# Altium schematic symbol library CODEC_SHIELD.SchLib: 6 symbols
Pins are listed as number, name and electrical type; pins without a type are passive.

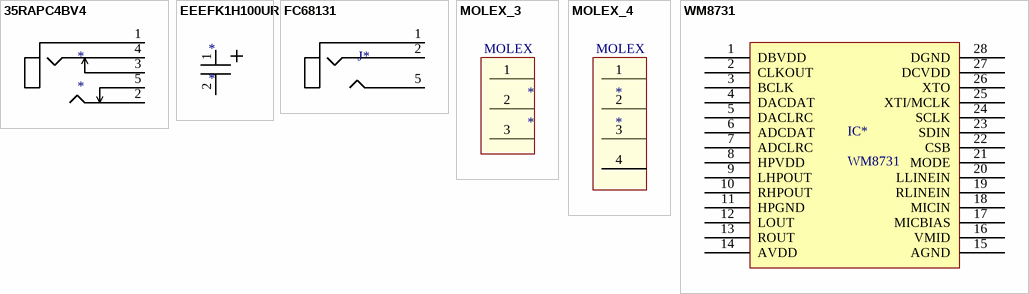
[diagram p0: symbols 35RAPC4BV4 to WM8731]

## 35RAPC4BV4
designator *
pins: 1 29, 2, 3, 4, 5

## EEEFK1H100UR
designator *
footprint EEEFK1H100UR
pins: 1, 2

## FC68131
designator J*  (value not drawn)
footprint FC68131
pins: 1, 2, 5

## MOLEX_3
designator *
footprint 254_3
pins: 1, 2, 3
text: MOLEX

## MOLEX_4
designator *
footprint 254_4
pins: 1, 2, 3, 4
text: MOLEX

## WM8731
designator IC*
footprint SSOP28
pins: 1 DBVDD, 2 CLKOUT, 3 BCLK, 4 DACDAT, 5 DACLRC, 6 ADCDAT, 7 ADCLRC, 8 HPVDD, 9 LHPOUT, 10 RHPOUT, 11 HPGND, 12 LOUT, 13 ROUT, 14 AVDD, 15 AGND, 16 VMID, 17 MICBIAS, 18 MICIN, 19 RLINEIN, 20 LLINEIN, 21 MODE, 22 CSB, 23 SDIN, 24 SCLK, 25 XTI/MCLK, 26 XTO, 27 DCVDD, 28 DGND